# Altium schematic symbol library CR0603-JW-512ELF.SchLib: 1 symbol
Pins are listed as number, name and electrical type; pins without a type are passive.

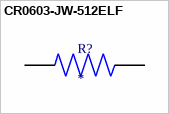
[diagram p0: symbol CR0603-JW-512ELF]

## CR0603-JW-512ELF
designator R?
Resistor Thick Film 0603 5.1k Ohm 5% 1/10 Watt Â±200ppm Â°C Surface Mount Paper Tape On Plastic Reel; MP: CR0603-JW-512ELF; Package: None; Price: None; Value: *; Availability: Unavailable; Supplier 1: Digi-Key; Supplier Part Number 1: 118-CR0603-JW-512ELFCT-ND
footprint RESC1608X55N
pins: 1, 2